# EAGLE library part COMPUTE-MODULE_EDGE-LIBRARY_AP2553AW6-7 (library ExportCompute Module)
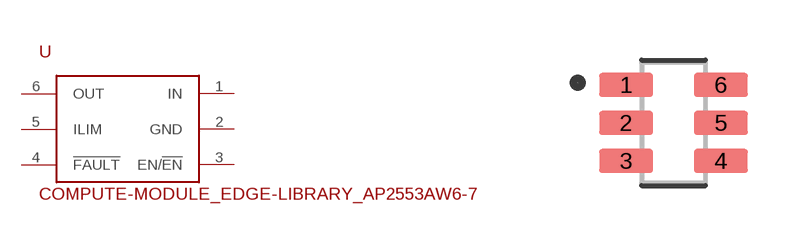
[diagram p1: symbol with the pads of COMPUTE-MODULE_EDGE-LIBRARY_SOT95P280X140-6N; footprint COMPUTE-MODULE_EDGE-LIBRARY_SOT95P280X140-6N]

Designator prefix U

## COMPUTE-MODULE_EDGE-LIBRARY_AP2553AW6-7 (DIGIKEY: AP2553AW6-7; MANUFACTURER: Diodes Incorporated; MPN: AP2553AW6-7)  [COMPUTE-MODULE_EDGE-LIBRARY_SOT95P280X140-6N]
1  IN
2  GND
3  EN/!EN
4  !FAULT
5  ILIM
6  OUT

## Footprint COMPUTE-MODULE_EDGE-LIBRARY_SOT95P280X140-6N (pad centres in mm)
smd 1.35 x 0.6: 1 -1.185,0.95; 2 -1.185,0; 3 -1.185,-0.95; 4 1.185,-0.95; 5 1.185,0; 6 1.185,0.95